# Altium footprint library IHM_ed01r01.PcbLib: 1 footprints
Each footprint in its own frame and in the unit in brackets; x right, y up, seen from the top. Pads: shape width x height; smd on the part's side, far side on the other; paste and mask are expansions set on the pad; w line width, h text height; cw(c..) or ccw(c..) is an arc to the next point about the centre after c.
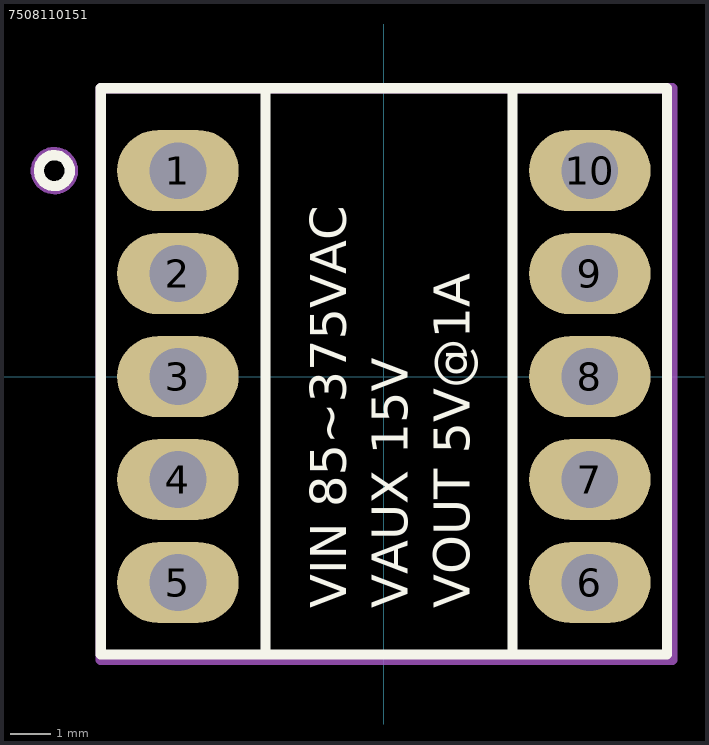
[diagram p0: the footprint, top view; thin cyan lines are the x and y axes]

## 7508110151 [mm]
pads (10):
  oval 3x2 hole 1.4: 1(-5.08,5.08) 2(-5.08,2.54) 3(-5.08,0) 4(-5.08,-2.54) 5(-5.08,-5.08) 6(5.08,-5.08) 7(5.08,-2.54) 8(5.08,0) 9(5.08,2.54) 10(5.08,5.08)
Top Overlay:
  circle w0.254: c-8.128,5.08 r0.381
  lines w0.254: -2.921,-6.858 -2.921,7.112 ; 3.175,-6.858 3.175,7.112 ; -6.985,-6.858 -6.985,7.112 6.985,7.112 6.985,-6.858 -6.985,-6.858
  text "VIN 85~375VAC / VAUX 15V / VOUT 5V@1A" at 2.413,-5.715 h1.52
Top Assembly (Mech29):
  circle w0.254: c-8.128,5.08 r0.458
  lines w0.254: -6.985,-6.985 -6.985,7.112 7.112,7.112 7.112,-6.985 -6.985,-6.985
  text "'.Designator'" at -5.334,-0.508 h2.5
3D body: height 14, standoff 0.1, extent -6.985,-6.858 6.985,7.112